# EAGLE library part ADXL345 (library Analog Devices)
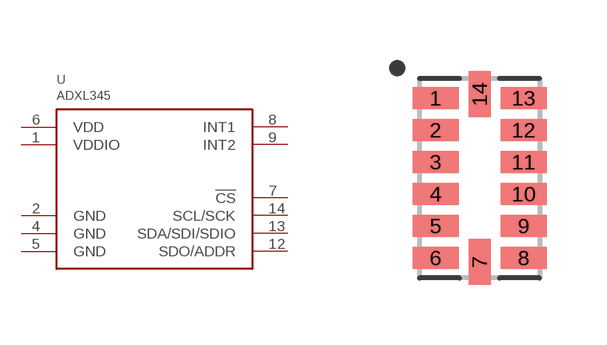
[diagram p4: symbol with the pads of LGA14; footprint LGA14]

Designator prefix U

## ADXL345  [LGA14]
1  VDDIO
2  GND
4  GND
5  GND
6  VDD
7  !CS
8  INT1
9  INT2
12  SDO/ADDR
13  SDA/SDI/SDIO
14  SCL/SCK

## Footprint LGA14 (pad centres in mm)
Land Grid Array (LGA-14)
smd 1.15 x 0.55: 1 -1.1,2; 2 -1.1,1.2; 3 -1.1,0.4; 4 -1.1,-0.4; 5 -1.1,-1.2; 6 -1.1,-2; 8 1.1,-2; 9 1.1,-1.2; 10 1.1,-0.4; 11 1.1,0.4; 12 1.1,1.2; 13 1.1,2
smd 0.55 x 1.15: 7 0,-2.1; 14 0,2.1